# Altium footprint library AP2127K-4.PCBLIB: 1 footprints
Each footprint in its own frame and in the unit in brackets; x right, y up, seen from the top. Pads: shape width x height; smd on the part's side, far side on the other; paste and mask are expansions set on the pad; w line width, h text height; cw(c..) or ccw(c..) is an arc to the next point about the centre after c.
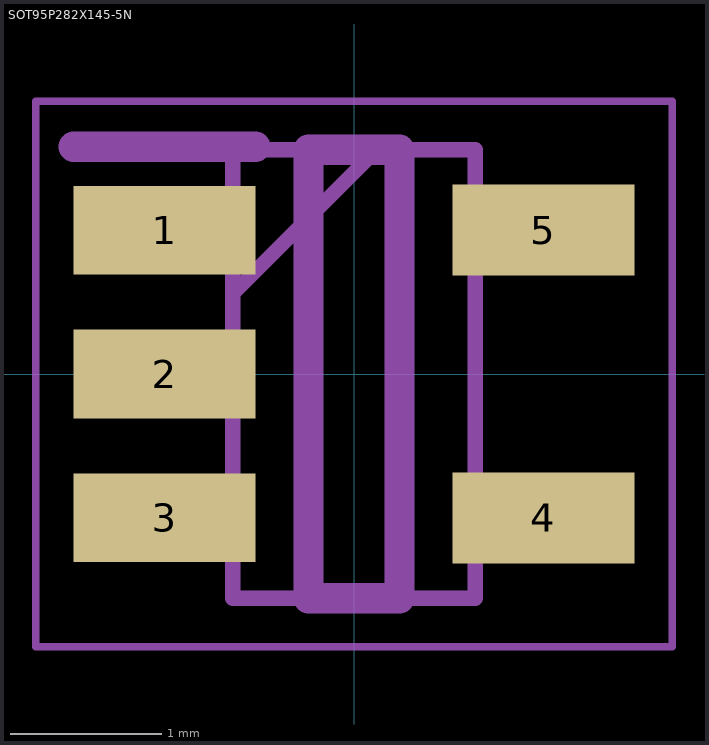
[diagram p0: the footprint, top view; thin cyan lines are the x and y axes]

## SOT95P282X145-5N [mil]
pads (5):
  rect 47.24x23 smd: 1(-49.21,37.4) 2(-49.21,0) 3(-49.21,-37.4)
  rect 47.24x23.62 smd: 4(49.21,-37.4) 5(49.21,37.4)
Mechanical 8:
  lines w1.97: -82.68,-70.87 -82.68,70.87 82.68,70.87 82.68,-70.87 -82.68,-70.87
  lines w3.94: -31.5,20.87 5.91,58.27 ; -31.5,-58.27 -31.5,58.27 31.5,58.27 31.5,-58.27 -31.5,-58.27
Mechanical 22:
  lines w7.87: -72.83,59.06 -25.59,59.06 ; -11.81,-58.27 -11.81,58.27 11.81,58.27 11.81,-58.27 -11.81,-58.27